# Altium footprint library bridge.PcbLib: 1 footprints
Each footprint in its own frame and in the unit in brackets; x right, y up, seen from the top. Pads: shape width x height; smd on the part's side, far side on the other; paste and mask are expansions set on the pad; w line width, h text height; cw(c..) or ccw(c..) is an arc to the next point about the centre after c.
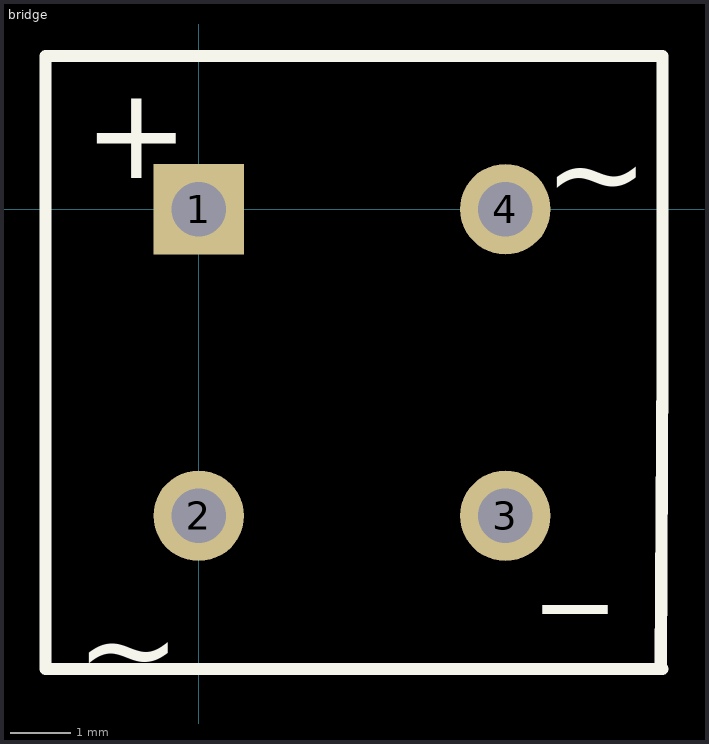
[diagram p0: the footprint, top view; thin cyan lines are the x and y axes]

## bridge [mm]
pads (4):
  rect 1.5x1.5 hole 0.9: 1(0,0)
  round 1.5 hole 0.9: 2(0,-5.08) 3(5.08,-5.08) 4(5.08,0)
Top Overlay:
  lines w0.2: -2.54,-7.62 -2.54,2.54 3.81,2.54 3.495,2.54 7.686,2.54 7.686,-2.54 7.654,-7.583 7.685,-7.62 -2.54,-7.62
  text "_" at 5.715,-6.223 h1.52
  text "+" at -1.905,0.508 h1.52
  text "~" at -2.032,-8.001 h1.52
  text "~" at 5.715,-0.127 h1.52